# EAGLE library part 74XX244 (library led_oscilloscope)
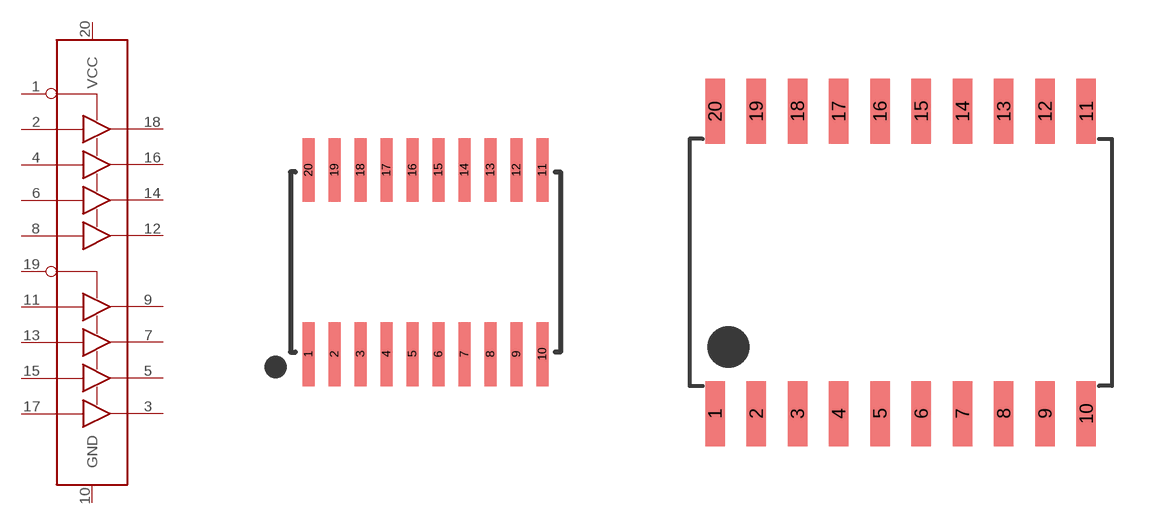
[diagram p0: symbol with the pads of TSSOP-20; footprints TSSOP-20, SOIC-20W]

Designator prefix IC

## 74XX244SSOP  [TSSOP-20]
1  1!OE!
2  1A1
3  2Y4
4  1A2
5  2Y3
6  1A3
7  2Y2
8  1A4
9  2Y1
10  GND
11  2A1
12  1Y4
13  2A2
14  1Y3
15  2A3
16  1Y2
17  2A4
18  1Y1
19  2!OE!
20  VCC

## 74XX244SOIC-W  [SOIC-20W]
Pads as for TSSOP-20

## 74XX244SOIC-N  [SOIC-20N]
Pads as for TSSOP-20

## Footprint TSSOP-20 (pad centres in mm)
smd 0.3 x 1.6: 1 -2.925,-2.3; 2 -2.275,-2.3; 3 -1.625,-2.3; 4 -0.975,-2.3; 5 -0.325,-2.3; 6 0.325,-2.3; 7 0.975,-2.3; 8 1.625,-2.3; 9 2.275,-2.3; 10 2.925,-2.3; 11 2.925,2.3; 12 2.275,2.3; 13 1.625,2.3; 14 0.975,2.3; 15 0.325,2.3; 16 -0.325,2.3; 17 -0.975,2.3; 18 -1.625,2.3; 19 -2.275,2.3; 20 -2.925,2.3

## Footprint SOIC-20W (pad centres in mm)
smd 0.6 x 2: 1 -5.715,-4.65; 2 -4.445,-4.65; 3 -3.175,-4.65; 4 -1.905,-4.65; 5 -0.635,-4.65; 6 0.635,-4.65; 7 1.905,-4.65; 8 3.175,-4.65; 9 4.445,-4.65; 10 5.715,-4.65; 11 5.715,4.65; 12 4.445,4.65; 13 3.175,4.65; 14 1.905,4.65; 15 0.635,4.65; 16 -0.635,4.65; 17 -1.905,4.65; 18 -3.175,4.65; 19 -4.445,4.65; 20 -5.715,4.65

## Footprint SOIC-20N (pad centres in mm)
smd 0.6 x 1.55: 1 -5.715,-3.6; 2 -4.445,-3.6; 3 -3.175,-3.6; 4 -1.905,-3.6; 5 -0.635,-3.6; 6 0.635,-3.6; 7 1.905,-3.6; 8 3.175,-3.6; 9 4.445,-3.6; 10 5.715,-3.6; 11 5.715,3.6; 12 4.445,3.6; 13 3.175,3.6; 14 1.905,3.6; 15 0.635,3.6; 16 -0.635,3.6; 17 -1.905,3.6; 18 -3.175,3.6; 19 -4.445,3.6; 20 -5.715,3.6